# Altium footprint library DG12750802P141000AH.PcbLib: 1 footprints
Each footprint in its own frame and in the unit in brackets; x right, y up, seen from the top. Pads: shape width x height; smd on the part's side, far side on the other; paste and mask are expansions set on the pad; w line width, h text height; cw(c..) or ccw(c..) is an arc to the next point about the centre after c.
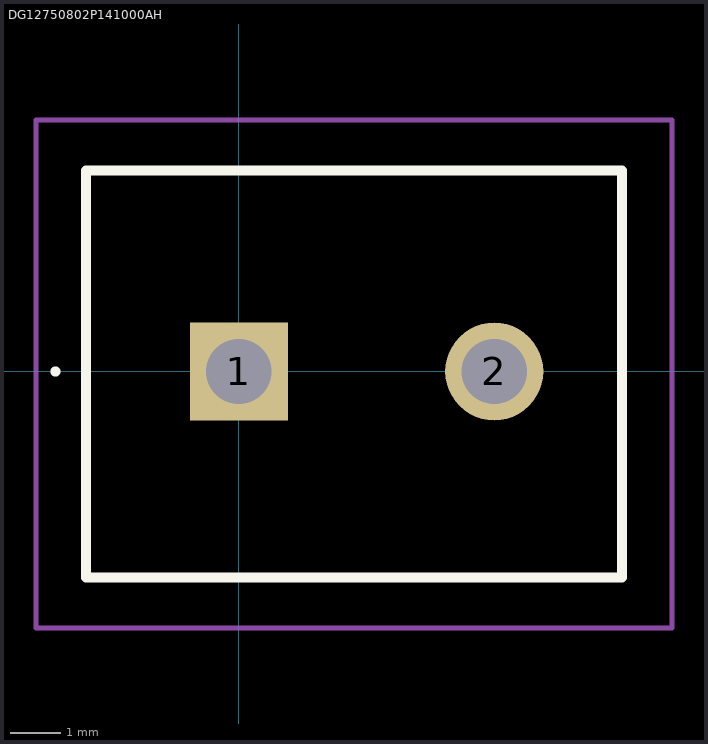
[diagram p0: the footprint, top view; thin cyan lines are the x and y axes]

## DG12750802P141000AH [mm]
pads (2):
  rect 1.95x1.95 hole 1.3: 1(0,0)
  round 1.95 hole 1.3: 2(5.08,0)
Top Overlay:
  lines w0.1: -3.7,0 cw(c-3.65,0) -3.6,0 ; -3.7,0 -3.7,0 ; -3.7,0 ccw(c-3.65,0) -3.6,0 ; -3.6,0 -3.6,0
  lines w0.2: -3.04,-4.1 7.62,-4.1 7.62,4 -3.04,4 -3.04,-4.1
Mechanical 15:
  lines w0.1: -3.04,-4.1 7.62,-4.1 7.62,4 -3.04,4 -3.04,-4.1
Mechanical 20:
  lines w0.1: -4.04,-5.1 8.62,-5.1 8.62,5 -4.04,5 -4.04,-5.1